# Altium footprint library ARTIK-10.PcbLib: 1 footprints
Each footprint in its own frame and in the unit in brackets; x right, y up, seen from the top. Pads: shape width x height; smd on the part's side, far side on the other; paste and mask are expansions set on the pad; w line width, h text height; cw(c..) or ccw(c..) is an arc to the next point about the centre after c.
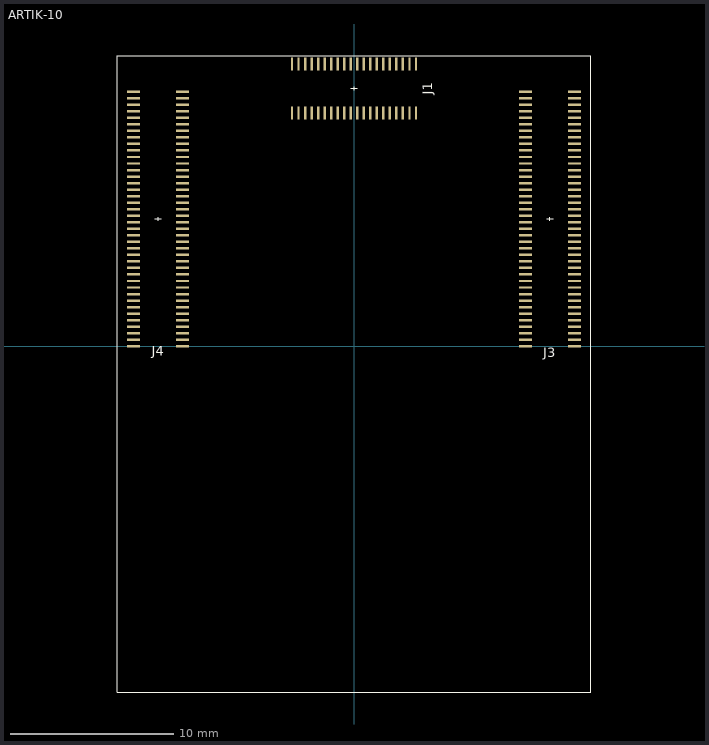
[diagram p0: the footprint, top view; thin cyan lines are the x and y axes]

## ARTIK-10 [mm]
pads (200):
  rect 0.15x0.8 smd: I1(-3.8,17.3) I2(-3.8,14.3) I3(-3.4,17.3) I4(-3.4,14.3) I5(-3,17.3) I6(-3,14.3) I7(-2.6,17.3) I8(-2.6,14.3) I9(-2.2,17.3) I10(-2.2,14.3) I11(-1.8,17.3) I12(-1.8,14.3) I13(-1.4,17.3) I14(-1.4,14.3) I15(-1,17.3) I16(-1,14.3) I17(-0.6,17.3) I18(-0.6,14.3) I19(-0.2,17.3) I20(-0.2,14.3) I21(0.2,17.3) I22(0.2,14.3) I23(0.6,17.3) I24(0.6,14.3) I25(1,17.3) I26(1,14.3) I27(1.4,17.3) I28(1.4,14.3) I29(1.8,17.3) I30(1.8,14.3) I31(2.2,17.3) I32(2.2,14.3) I33(2.6,17.3) I34(2.6,14.3) I35(3,17.3) I36(3,14.3) I37(3.4,17.3) I38(3.4,14.3) I39(3.8,17.3) I40(3.8,14.3)
  rect 0.8x0.15 smd: J1(10.5,0) J2(13.5,0) J3(10.5,0.4) J4(13.5,0.4) J5(10.5,0.8) J6(13.5,0.8) J7(10.5,1.2) J8(13.5,1.2) J9(10.5,1.6) J10(13.5,1.6) J11(10.5,2) J12(13.5,2) J13(10.5,2.4) J14(13.5,2.4) J15(10.5,2.8) J16(13.5,2.8) J17(10.5,3.2) J18(13.5,3.2) J19(10.5,3.6) J20(13.5,3.6) J21(10.5,4) J22(13.5,4) J23(10.5,4.4) J24(13.5,4.4) J25(10.5,4.8) J26(13.5,4.8) J27(10.5,5.2) J28(13.5,5.2) J29(10.5,5.6) J30(13.5,5.6) J31(10.5,6) J32(13.5,6) J33(10.5,6.4) J34(13.5,6.4) J35(10.5,6.8) J36(13.5,6.8) J37(10.5,7.2) J38(13.5,7.2) J39(10.5,7.6) J40(13.5,7.6) J41(10.5,8) J42(13.5,8) J43(10.5,8.4) J44(13.5,8.4) J45(10.5,8.8) J46(13.5,8.8) J47(10.5,9.2) J48(13.5,9.2) J49(10.5,9.6) J50(13.5,9.6) J51(10.5,10) J52(13.5,10) J53(10.5,10.4) J54(13.5,10.4) J55(10.5,10.8) J56(13.5,10.8) J57(10.5,11.2) J58(13.5,11.2) J59(10.5,11.6) J60(13.5,11.6) J61(10.5,12) J62(13.5,12) J63(10.5,12.4) J64(13.5,12.4) J65(10.5,12.8) J66(13.5,12.8) J67(10.5,13.2) J68(13.5,13.2) J69(10.5,13.6) J70(13.5,13.6) J71(10.5,14) J72(13.5,14) J73(10.5,14.4) J74(13.5,14.4) J75(10.5,14.8) J76(13.5,14.8) J77(10.5,15.2) J78(13.5,15.2) J79(10.5,15.6) J80(13.5,15.6) K1(-13.5,0) K2(-10.5,0) K3(-13.5,0.4) K4(-10.5,0.4) K5(-13.5,0.8) K6(-10.5,0.8) K7(-13.5,1.2) K8(-10.5,1.2) K9(-13.5,1.6) K10(-10.5,1.6) K11(-13.5,2) K12(-10.5,2) K13(-13.5,2.4) K14(-10.5,2.4) K15(-13.5,2.8) K16(-10.5,2.8) K17(-13.5,3.2) K18(-10.5,3.2) K19(-13.5,3.6) K20(-10.5,3.6) K21(-13.5,4) K22(-10.5,4) K23(-13.5,4.4) K24(-10.5,4.4) K25(-13.5,4.8) K26(-10.5,4.8) K27(-13.5,5.2) K28(-10.5,5.2) K29(-13.5,5.6) K30(-10.5,5.6) K31(-13.5,6) K32(-10.5,6) K33(-13.5,6.4) K34(-10.5,6.4) K35(-13.5,6.8) K36(-10.5,6.8) K37(-13.5,7.2) K38(-10.5,7.2) K39(-13.5,7.6) K40(-10.5,7.6) K41(-13.5,8) K42(-10.5,8) K43(-13.5,8.4) K44(-10.5,8.4) K45(-13.5,8.8) K46(-10.5,8.8) K47(-13.5,9.2) K48(-10.5,9.2) K49(-13.5,9.6) K50(-10.5,9.6) K51(-13.5,10) K52(-10.5,10) K53(-13.5,10.4) K54(-10.5,10.4) K55(-13.5,10.8) K56(-10.5,10.8) K57(-13.5,11.2) K58(-10.5,11.2) K59(-13.5,11.6) K60(-10.5,11.6) K61(-13.5,12) K62(-10.5,12) K63(-13.5,12.4) K64(-10.5,12.4) K65(-13.5,12.8) K66(-10.5,12.8) K67(-13.5,13.2) K68(-10.5,13.2) K69(-13.5,13.6) K70(-10.5,13.6) K71(-13.5,14) K72(-10.5,14) K73(-13.5,14.4) K74(-10.5,14.4) K75(-13.5,14.8) K76(-10.5,14.8) K77(-13.5,15.2) K78(-10.5,15.2) K79(-13.5,15.6) K80(-10.5,15.6)
Top Overlay:
  lines w0.05: -12.2,7.8 -11.8,7.8 ; -12,7.7 -12,7.9 ; -0.2,15.8 0,15.8 ; 0,15.7 0,15.8 ; 0,15.9 0,15.8 ; 0.2,15.8 0,15.8 ; 11.8,7.8 12.2,7.8 ; 12,7.7 12,7.9 ; -14.5,-21.2 -14.5,17.8 14.5,17.8 14.5,-21.2 -14.5,-21.2
  text "J1" at 5,15.4 h1
  text "J3" at 11.6,-0.9 h1
  text "J4" at -12.4,-0.8 h1
3D body: height 1.45, standoff 0, extent -13.8,-1.55 -10.2,17.15
3D body: height 1.45, standoff 0, extent 10.2,-1.55 13.8,17.15
3D body: height 1.45, standoff 0, extent -5.35,14 5.35,17.6